# Altium integrated library IntLib1.IntLib: 30 symbols
Pins are listed as number, name and electrical type; pins without a type are passive.

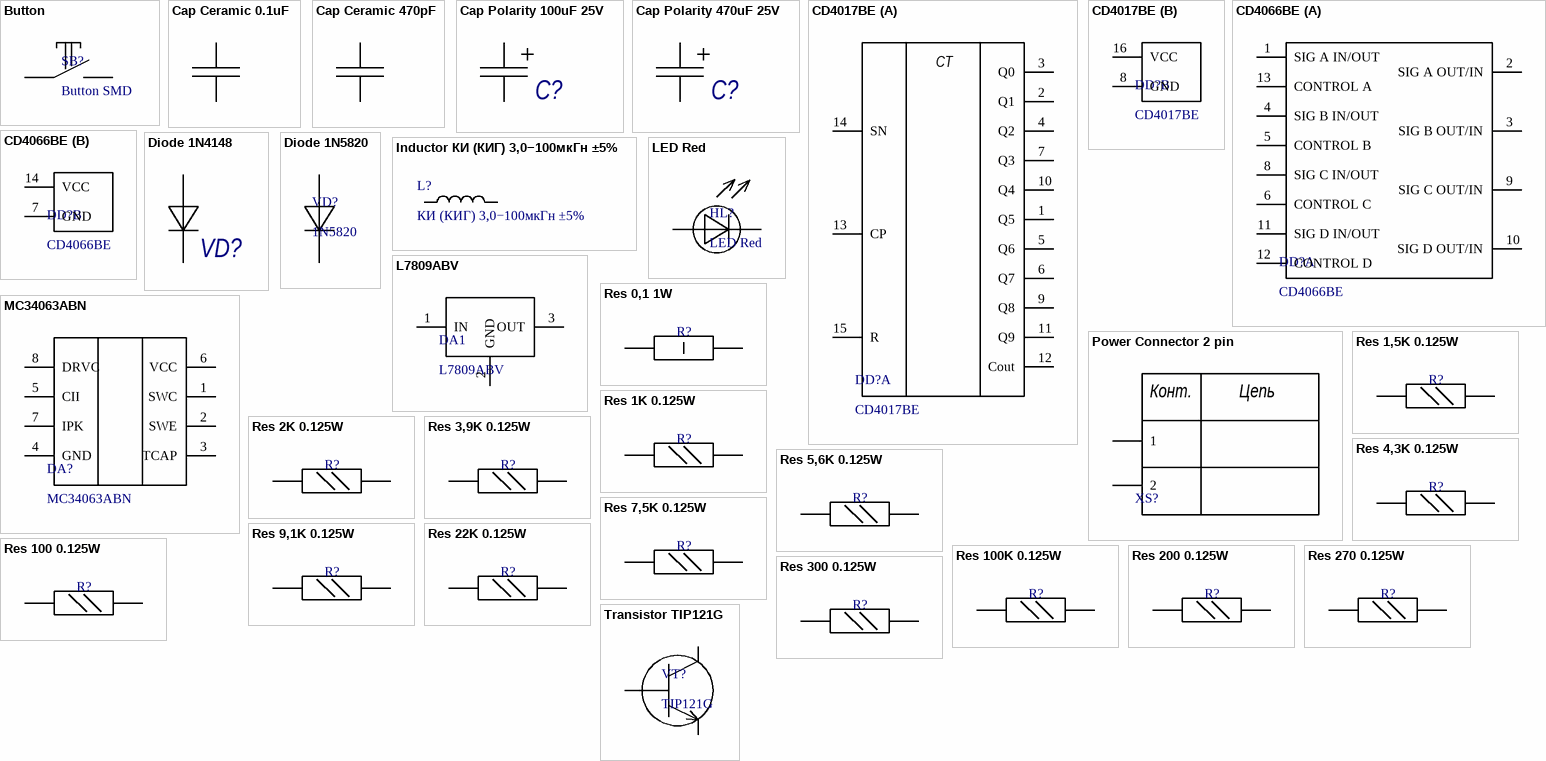
[diagram p0: symbols Button to Transistor TIP121G]

## Button
designator SB?, comment Button SMD
Кнопка тактовая 1437566-3 (TE Connectivity, США)
footprint Button SMD
pins: 1, 2

## Cap Ceramic 0.1uF
designator C?  (value not drawn)
CAP X7R RDER71H104K 25В 0.1мкФ ±10% (Murata, Япония); Type: Конденсатор
footprint CAPPRB508-450X850 (Capacitor, Polarized Radial Bead, Pin spacing 5.08mm - Body Diameter 4.5mm X Body Height 8.5mm)
pins: 1, 2

## Cap Ceramic 470pF
designator C?  (value not drawn)
CAP NPO RDE5C1H471J 25В 470пкФ ±5% (Murata, Япония); Type: Конденсатор
footprint CAPPRB508-450X850 (Capacitor, Polarized Radial Bead, Pin spacing 5.08mm - Body Diameter 4.5mm X Body Height 8.5mm)
pins: 1, 2

## Cap Polarity 100uF 25V
designator C?, comment 100uF 25V  (value not drawn)
ECAP TKR101M1EE11 25В 100мкФ ±5% (Jamicon, Китай); Type: Конденсатор
footprint CAPPR250-630X1120 (Capacitor, Radial, Pin spacing 2.5mm - Body Diameter 6.3mm X Body Height 11.2mm)
pins: 1, 2

## Cap Polarity 470uF 25V
designator C?, comment 470uF 25V  (value not drawn)
ECAP TKR471M1EF14 25В 470мкФ ±5% (Jamicon, Китай); Type: Конденсатор
footprint CAPPR350-850X1300 (Capacitor, Radial, Pin spacing 3.5mm - Body Diameter 8.5mm x Body Height 13mm)
pins: 1, 2

## CD4017BE
designator DD?
CD4017BE (Texas Instuments, США)
footprint DIPS16-300 (DIP Socket 16 Leads, Row Spacing 7.62 mm; Pitch 2.54 mm)
part A pins: 1 Q5, 2 Q1, 3 Q0, 4 Q2, 5 Q6, 6 Q7, 7 Q3, 9 Q8, 10 Q4, 11 Q9, 12 Cout, 13 CP, 14 SN, 15 R
part B pins: 8 GND, 16 VCC
part A text: СТ

## CD4066BE
designator DD?
CD4066BE (HGSEMI, Китай)
footprint DIPS14-300 (DIP  Socket 14 Leads, Row Spacing 7.62 mm; Pitch 2.54 mm)
part A pins: 1 SIG A IN/OUT, 2 SIG A OUT/IN, 3 SIG B OUT/IN, 4 SIG B IN/OUT, 5 CONTROL B, 6 CONTROL C, 8 SIG C IN/OUT, 9 SIG C OUT/IN, 10 SIG D OUT/IN, 11 SIG D IN/OUT, 12 CONTROL D, 13 CONTROL A
part B pins: 7 GND, 14 VCC

## Diode 1N4148
designator VD?, comment 1N4002  (value not drawn)
1N4148 (Diotec, Германия); Type: Диод; Published: 18.05.2010; Publisher: Andrew Danich
footprint DO-35
pins: 1 А "Анод", 2 К "Катод"

## Diode 1N5820
designator VD?, comment 1N5820
1N5820 (Diotec, Германия)
footprint DO-27
pins: 1 А "Анод", 2 К "Катод"

## Inductor КИ (КИГ) 3,0−100мкГн ±5%
designator L?, comment КИ (КИГ) 3,0−100мкГн ±5%
КИ (КИГ) 3,0−100мкГн ±10% (Россия)
footprint INDRD_WURTH_WE-TI (Radial Leaded Wire Wound Inductor D=8.3mm)
pins: 1, 2

## L7809ABV
designator DA1
L7809ABV (STMicroelectronics, Швейцария)
footprint TO-220AB (КТ-28-2)
pins: 1 IN, 2 GND, 3 OUT

## LED Red
designator HL?
GNL-5012ED (G-nor Electronics, Китай)
footprint LD-5mm-R (5mm DIP Red Led Footprint)
pins: 1 A "Анод", 2 K "Катод"

## MC34063ABN
designator DA?
MC34063ABN (STMicroelectronis, Швейцария)
footprint DIPS8-300 (DIP Socket 8 Leads, Row Spacing 7.62 mm; Pitch 2.54 mm)
pins: 1 SWC, 2 SWE, 3 TCAP, 4 GND, 5 CII, 6 VCC, 7 IPK, 8 DRVC

## Power Connector 2 pin
designator XS?  (value not drawn)
25.161.0253.0 (Wieland Electric, Германия)
footprint WIELAND_25.161.0253.0 (Terminal Block, Pitch 5mm, 2 Positions, Screw Connection)
pins: 1 "Информационный вход Х6", 2 "Информационный вход Х6"
text: Конт.; Цепь

## Res 0,1 1W
designator R?, comment 0,1Ом  (value not drawn)
С1-4−1−0,1Ом ±5% (Россия)
footprint Res 1W
pins: 1, 2

## Res 1,5K 0.125W
designator R?, comment 1кОм  (value not drawn)
С1-4−0,125−1,5кОм ±5% (Россия)
footprint Res 0.125W
pins: 1, 2

## Res 1K 0.125W
designator R?, comment 1кОм  (value not drawn)
С1-4−0,125−1кОм ±5% (Россия)
footprint Res 0.125W
pins: 1, 2

## Res 2K 0.125W
designator R?, comment 2кОм  (value not drawn)
С1-4−0,125−2кОм ±5% (Россия)
footprint Res 0.125W
pins: 1, 2

## Res 3,9K 0.125W
designator R?, comment 3,9кОм  (value not drawn)
С1-4−0,125−3,9кОм ±5% (Россия)
footprint Res 0.125W
pins: 1, 2

## Res 4,3K 0.125W
designator R?, comment 4,3кОм  (value not drawn)
С1-4−0,125−4,3кОм ±5% (Россия)
footprint Res 0.125W
pins: 1, 2

## Res 5,6K 0.125W
designator R?, comment 5,6кОм  (value not drawn)
С1-4−0,125−5,6кОм ±5% (Россия)
footprint Res 0.125W
pins: 1, 2

## Res 7,5K 0.125W
designator R?, comment 7,5кОм  (value not drawn)
С1-4−0,125−7,5кОм ±5% (Россия)
footprint Res 0.125W
pins: 1, 2

## Res 9,1K 0.125W
designator R?, comment 9,1кОм  (value not drawn)
С1-4−0,125−9,1кОм ±5% (Россия)
footprint Res 0.125W
pins: 1, 2

## Res 22K 0.125W
designator R?, comment 22кОм  (value not drawn)
С1-4−0,125−22кОм ±5% (Россия)
footprint Res 0.125W
pins: 1, 2

## Res 100 0.125W
designator R?, comment 100Ом  (value not drawn)
С1-4−0,125−100Ом ±5% (Россия)
footprint Res 0.125W
pins: 1, 2

## Res 100K 0.125W
designator R?, comment 100кОм  (value not drawn)
С1-4−0,125−100кОм ±5% (Россия)
footprint Res 0.125W
pins: 1, 2

## Res 200 0.125W
designator R?, comment 200Ом  (value not drawn)
С1-4−0,125−200Ом ±5% (Россия)
footprint Res 0.125W
pins: 1, 2

## Res 270 0.125W
designator R?, comment 270Ом  (value not drawn)
С1-4−0,125−270Ом ±5% (Россия)
footprint Res 0.125W
pins: 1, 2

## Res 300 0.125W
designator R?, comment 300Ом  (value not drawn)
С1-4−0,125−300Ом ±5% (Россия)
footprint Res 0.125W
pins: 1, 2

## Transistor TIP121G
designator VT?, comment TIP121G
TIP121G (ON Semiconductor, США)
footprint TO-220AB (КТ-28-2)
pins: 1 Б "База", 2 К "Коллектор", 3 Э "Эмиттер"